# Altium schematic symbol library RF_LIB.SchLib: 10 symbols
Pins are listed as number, name and electrical type; pins without a type are passive.

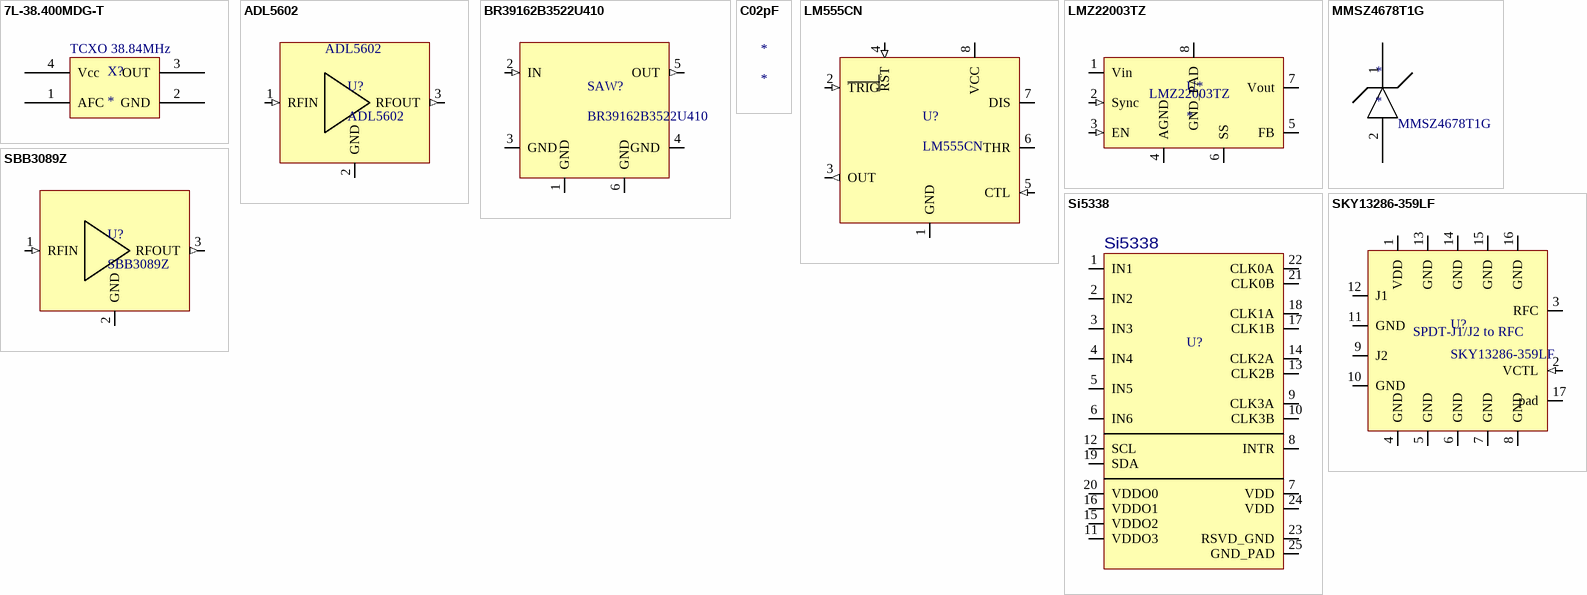
[diagram p0: symbols 7L-38.400MDG-T to SKY13286-359LF]

## 7L-38.400MDG-T
designator X?
footprint TCXO 2.5x2x0.8mm
pins: 1 AFC, 2 GND, 3 OUT, 4 Vcc
text: TCXO 38.84MHz

## ADL5602
designator U?
Gain block; Manufacturer part number: ADL5602ARKZ-R7; Manufacturer: Analog Devices
footprint LFCSP
footprint ADL5544 (SOT223, 4-Leads, Body 4,6x4,3mm (max), Pitch 1,50mm, IPC Medium Density)
pins: 1 RFIN (in) "RF Input", 2 GND (power) "Ground", 3 RFOUT (out) "Ground"

## BR39162B3522U410
designator SAW?
Saw Filter; Manufacturer part number: B39162B3522U410; Manufacturer: TDK
footprint SAW_package
pins: 1 GND (power) "GROUND", 2 IN (in) "INPUT", 3 GND (power) "GROUND", 4 GND (power) "GROUND", 5 OUT (out) "Output", 6 GND (power) "GROUND"

## C02pF
designator *

## LM555CN
designator U?
Manufacturer PN: LM555CN/NOPB
footprint DIP8
pins: 1 GND (power), 2 ~{TRIG} (in), 3 OUT (out), 4 ~{RS}T (in), 5 CTL (in), 6 THR, 7 DIS, 8 VCC (power)

## LMZ22003TZ
designator U*
3A SIMPLE SWITCHER Power Module With 20V Maximum Input Voltage; Manufacturer: Texas Instruments; Farnell code: 1890063
footprint NDW
pins: 1 Vin (power), 2 Sync (in), 3 EN (in) "Enable", 4 AGND (power) "GND", 5 FB (power) "Output", 6 SS (power) "Output", 7 Vout (power) "Output", 8 GND_PAD (power) "Output"

## MMSZ4678T1G
designator *
footprint SOD-123 (Footprint not found)
pins: 1 K, 2 A

## SBB3089Z
designator U?
RF Amplifier; Manufacturer: rfmd/Qorvo; MPN: SBB3089ZSR
footprint LFCSP
pins: 1 RFIN (in) "Output", 2 GND (power) "Output", 3 RFOUT (out) "Output"

## Si5338
designator U?  (value not drawn)
Clock Generator, 710 MHz, 2.97 V to 3.63 V, 4 Outputs, QFN-24; Farnell Code: 2421794
footprint Si5338
pins: 1 IN1 (power) "Output", 2 IN2 (power) "Output", 3 IN3 (power) "Output", 4 IN4 (power) "Output", 5 IN5 (power) "Output", 6 IN6 (power) "Output", 7 VDD (power) "Output", 8 INTR (power) "Output", 9 CLK3A (power) "Output", 10 CLK3B (power) "Output", 11 VDDO3 (power) "Output", 12 SCL (power) "Output", 13 CLK2B (power) "Output", 14 CLK2A (power) "Output", 15 VDDO2 (power) "Output", 16 VDDO1 (power) "Output", 17 CLK1B (power) "Output", 18 CLK1A (power) "Output", 19 SDA (power) "Output", 20 VDDO0 (power) "Output", 21 CLK0B (power) "Output", 22 CLK0A (power) "Output", 23 RSVD_GND (power) "Output", 24 VDD (power) "Output", 25 GND_PAD (power) "Output"

## SKY13286-359LF
designator U?
SPDT-J2/J1 to RFC; Manufacturer: Skyworks
footprint QFN-16_skyworks
pins: 1 VDD (power), 2 VCTL (in) "Control Voltage", 3 RFC "RF I/O", 4 GND (power), 5 GND (power), 6 GND (power), 7 GND (power), 8 GND (power), 9 J2 "RF I/O", 10 GND (power), 11 GND (power), 12 J1 "RF I/O", 13 GND (power), 14 GND (power), 15 GND (power), 16 GND (power), 17 pad (power) "solder pad"
text: SPDT-J1/J2 to RFC